# Altium footprint library type_c.PcbLib: 1 footprints
Each footprint in its own frame and in the unit in brackets; x right, y up, seen from the top. Pads: shape width x height; smd on the part's side, far side on the other; paste and mask are expansions set on the pad; w line width, h text height; cw(c..) or ccw(c..) is an arc to the next point about the centre after c.
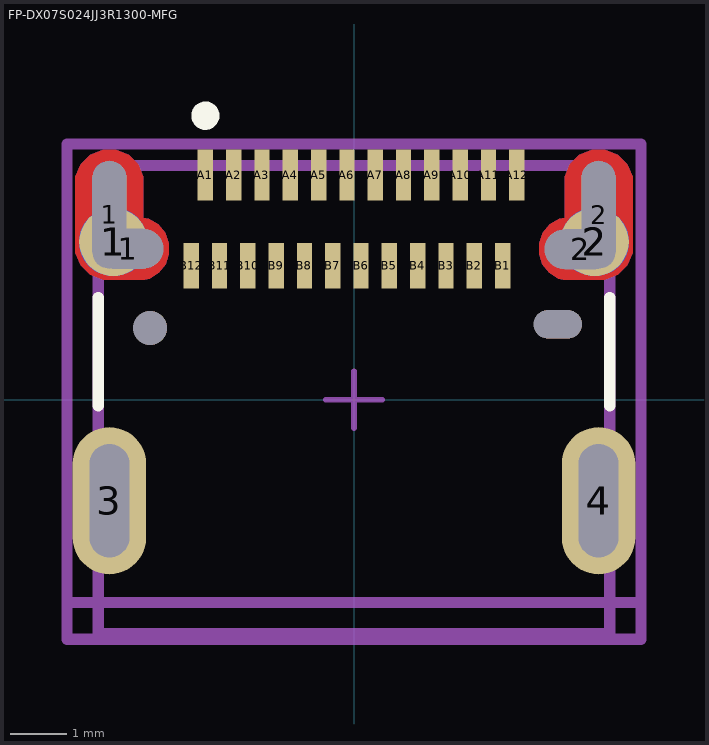
[diagram p0: the footprint, top view; thin cyan lines are the x and y axes]

## FP-DX07S024JJ3R1300-MFG [mm]
pads (36):
  rrect100% 0.6x1.9 hole 1.9 slot 0.6 at 0 deg paste-2539.97 mask+0: 1(-4.32,3.265) 2(4.32,3.265)
  round 1.207 smd far side paste-1000 mask+0: 1(-4.25,2.785) 2(4.25,2.785)
  round 1.207 smd paste-1000 mask+0: 1(-4.25,2.785) 2(4.25,2.785)
  rrect100% 1.25x0.7 hole 0.7 slot 1.25 at 0 deg paste-2539.97 mask+0: 1(-3.995,2.665) 2(3.995,2.655)
  rrect100% 1.3x2.6 hole 2 slot 0.7 at 0 deg paste-2539.97 mask+0: 3(-4.32,-1.785) 4(4.32,-1.785)
  rect 0.27x0.9 smd paste+0 mask+0: A1(-2.625,3.965) A2(-2.125,3.965) A3(-1.625,3.965) A4(-1.125,3.965) A5(-0.625,3.965) A6(-0.125,3.965) A7(0.375,3.965) A8(0.875,3.965) A9(1.375,3.965) A10(1.875,3.965) A11(2.375,3.965) A12(2.875,3.965)
  rect 0.27x0.8 smd paste+0 mask+0: B1(2.625,2.365) B2(2.125,2.365) B3(1.625,2.365) B4(1.125,2.365) B5(0.625,2.365) B6(0.125,2.365) B7(-0.375,2.365) B8(-0.875,2.365) B9(-1.375,2.365) B10(-1.875,2.365) B11(-2.375,2.365) B12(-2.875,2.365)
  round 0.6 hole 0.6 unplated paste-2539.97 mask+0: ""(-3.6,1.265)
  rrect100% 0.85x0.5 hole 0.5 slot 0.85 at 0 deg unplated paste-2539.97 mask+0: ""(3.6,1.33)
Top Layer:
  region: -4.92,3.815 -4.92,3.934 -4.829,4.155 -4.66,4.324 -4.439,4.415 -4.32,4.415 -4.201,4.415 -3.98,4.324 -3.811,4.155 -3.72,3.934 -3.72,3.815 -3.72,3.215 -3.624,3.197 -3.456,3.098 -3.332,2.947 -3.268,2.763 -3.27,2.665 -3.268,2.57 -3.328,2.388 -3.445,2.238 -3.607,2.136 -3.7,2.115 -4.32,2.115 -4.439,2.115 -4.66,2.206 -4.829,2.375 -4.92,2.596 -4.92,2.715
  region: 4.92,3.815 4.92,3.934 4.829,4.155 4.66,4.324 4.439,4.415 4.32,4.415 4.201,4.415 3.98,4.324 3.811,4.155 3.72,3.934 3.72,3.815 3.72,3.215 3.624,3.197 3.456,3.098 3.332,2.947 3.268,2.763 3.27,2.665 3.268,2.57 3.328,2.388 3.445,2.238 3.607,2.136 3.7,2.115 4.32,2.115 4.439,2.115 4.66,2.206 4.829,2.375 4.92,2.596 4.92,2.715
Bottom Layer:
  region: -4.92,3.815 -4.92,3.934 -4.829,4.155 -4.66,4.324 -4.439,4.415 -4.32,4.415 -4.201,4.415 -3.98,4.324 -3.811,4.155 -3.72,3.934 -3.72,3.815 -3.72,3.215 -3.624,3.197 -3.456,3.098 -3.332,2.947 -3.268,2.763 -3.27,2.665 -3.268,2.57 -3.328,2.388 -3.445,2.238 -3.607,2.136 -3.7,2.115 -4.32,2.115 -4.439,2.115 -4.66,2.206 -4.829,2.375 -4.92,2.596 -4.92,2.715
  region: 4.92,3.815 4.92,3.934 4.829,4.155 4.66,4.324 4.439,4.415 4.32,4.415 4.201,4.415 3.98,4.324 3.811,4.155 3.72,3.934 3.72,3.815 3.72,3.215 3.624,3.197 3.456,3.098 3.332,2.947 3.268,2.763 3.27,2.665 3.268,2.57 3.328,2.388 3.445,2.238 3.607,2.136 3.7,2.115 4.32,2.115 4.439,2.115 4.66,2.206 4.829,2.375 4.92,2.596 4.92,2.715
Top Overlay:
  circle w0.25: c-2.625,5.015 r0.125
  lines w0.2: -4.52,-0.11 -4.52,1.805 ; 4.52,-0.11 4.52,1.805
Top Assembly:
  lines w0.2: -5.07,-4.235 5.07,-4.235 5.07,4.515 -5.07,4.515 -5.07,-4.235
  text ".Designator" at 0,0.328 h1
Top 3D Body:
  lines w0.2: -5.07,-3.585 5.07,-3.585 ; -4.52,-4.135 4.52,-4.135 4.52,4.135 -4.52,4.135 -4.52,-4.135
Top Courtyard:
  lines w0.2: -5.07,-4.235 5.07,-4.235 5.07,4.515 -5.07,4.515 -5.07,-4.235
Top Component Center:
  lines w0.1: -0.5,0 0.5,0 ; 0,-0.5 0,0.5
3D body "Conn_JAE_Electronics_DX07S024JJ3R1300_eec.STEP": height 0.25, standoff 0, extent -5.07,-4.235 5.07,4.515